# Altium schematic symbol library lan8742ai-cz-tr.SchLib: 1 symbol
Pins are listed as number, name and electrical type; pins without a type are passive.

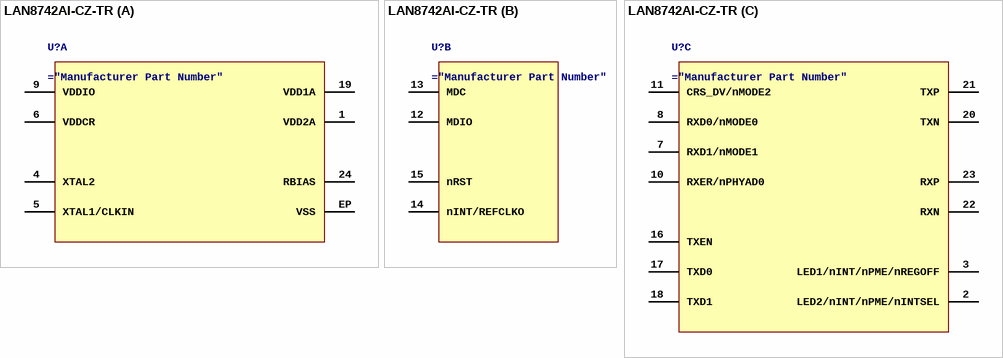
[diagram p0: symbol LAN8742AI-CZ-TR]

## LAN8742AI-CZ-TR
designator U?
Ethernet Transceiver, PQCC24
part A pins: 1 VDD2A, 4 XTAL2, 5 XTAL1/CLKIN, 6 VDDCR, 9 VDDIO, 19 VDD1A, 24 RBIAS, EP VSS
part B pins: 12 MDIO, 13 MDC, 14 nINT/REFCLKO, 15 nRST
part C pins: 2 LED2/nINT/nPME/nINTSEL, 3 LED1/nINT/nPME/nREGOFF, 7 RXD1/nMODE1, 8 RXD0/nMODE0, 10 RXER/nPHYAD0, 11 CRS_DV/nMODE2, 16 TXEN, 17 TXD0, 18 TXD1, 20 TXN, 21 TXP, 22 RXN, 23 RXP